# Altium footprint library N-MOSFET.PcbLib: 1 footprints
Each footprint in its own frame and in the unit in brackets; x right, y up, seen from the top. Pads: shape width x height; smd on the part's side, far side on the other; paste and mask are expansions set on the pad; w line width, h text height; cw(c..) or ccw(c..) is an arc to the next point about the centre after c.
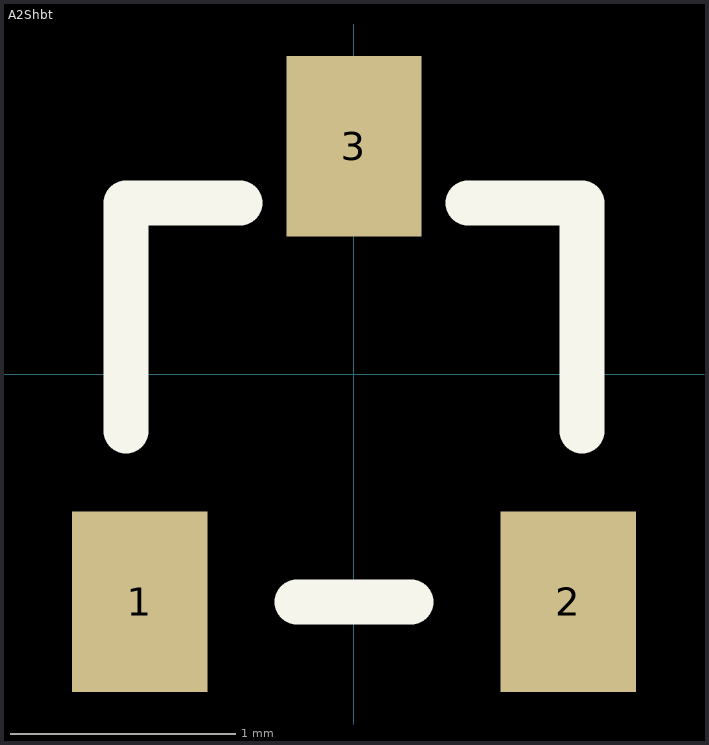
[diagram p0: the footprint, top view; thin cyan lines are the x and y axes]

## A2Shbt [mm] "N-MOSFET"
pads (3):
  rect 0.6x0.8 smd: 1(-0.95,-1.01) 2(0.95,-1.01) 3(0,1.01)
Top Overlay:
  lines w0.2: -1.01,-0.253 -1.01,0.757 -0.505,0.757 ; -0.252,-1.01 0.252,-1.01 ; 0.505,0.757 1.01,0.757 1.01,-0.253